# EAGLE library part LT3667 (library linear-technology)
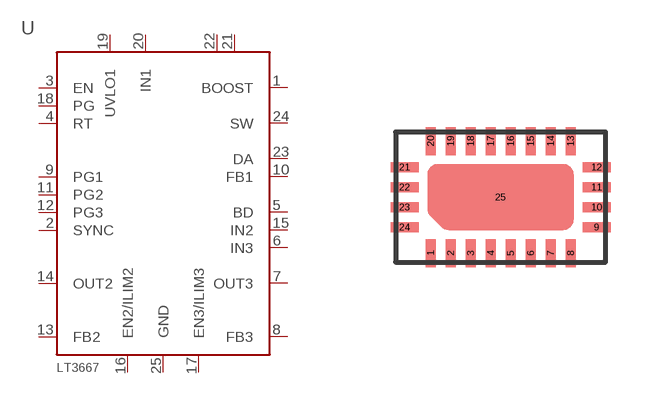
[diagram p25: symbol with the pads of QFN24-3X5; footprint QFN24-3X5]

Designator prefix -

## LT3667  [QFN24-3X5]
1  BOOST
2  SYNC
3  EN
4  RT
5  BD
6  IN3
7  OUT3
8  FB3
9  PG1
10  FB1
11  PG2
12  PG3
13  FB2
14  OUT2
15  IN2
16  EN2/ILIM2
17  EN3/ILIM3
18  PG
19  UVLO1
20  IN1
21  NC
22  NC
23  DA
24  SW
25  GND

## Footprint QFN24-3X5 (pad centres in mm)
smd 0.25 x 0.7: 1 -1.75,-1.4; 2 -1.25,-1.4; 3 -0.75,-1.4; 4 -0.25,-1.4; 5 0.25,-1.4; 6 0.75,-1.4; 7 1.25,-1.4; 8 1.75,-1.4; 13 1.75,1.4; 14 1.25,1.4; 15 0.75,1.4; 16 0.25,1.4; 17 -0.25,1.4; 18 -0.75,1.4; 19 -1.25,1.4; 20 -1.75,1.4
smd 0.7 x 0.25: 9 2.4,-0.75; 10 2.4,-0.25; 11 2.4,0.25; 12 2.4,0.75; 21 -2.4,0.75; 22 -2.4,0.25; 23 -2.4,-0.25; 24 -2.4,-0.75; 25 0,0